# Altium footprint library PCB - LEADED - SOT-23 -TI SOT-23-8 DDF.PcbLib: 1 footprints
Each footprint in its own frame and in the unit in brackets; x right, y up, seen from the top. Pads: shape width x height; smd on the part's side, far side on the other; paste and mask are expansions set on the pad; w line width, h text height; cw(c..) or ccw(c..) is an arc to the next point about the centre after c.
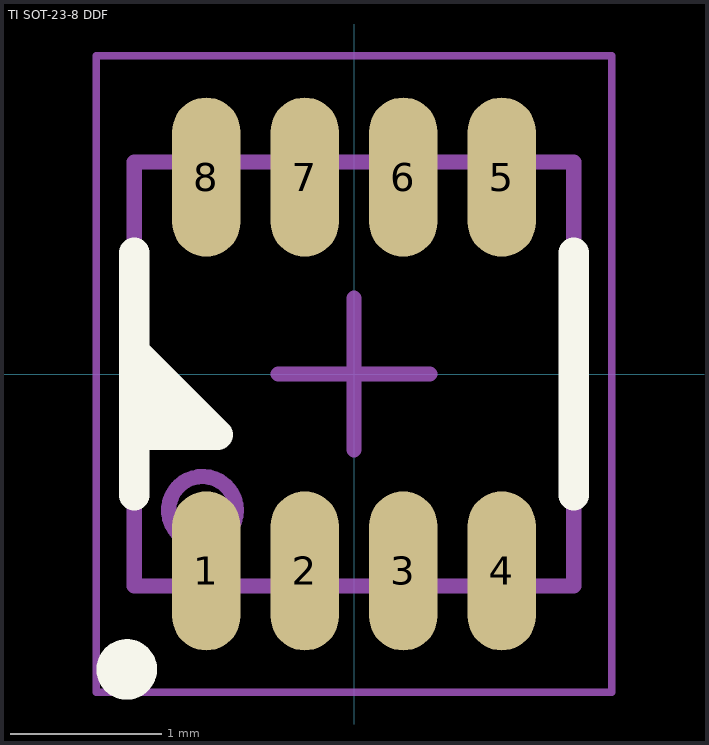
[diagram p0: the footprint, top view; thin cyan lines are the x and y axes]

## TI SOT-23-8 DDF [mm] "TSOT-23-8 Package, 0.65mm Pitch, 2.90x1.60mm Body"
height 1.1
pads (8):
  oval 0.45x1.05 smd: 1(-0.975,-1.3) 2(-0.325,-1.3) 3(0.325,-1.3) 4(0.975,-1.3) 5(0.975,1.3) 6(0.325,1.3) 7(-0.325,1.3) 8(-0.975,1.3)
Top Overlay:
  circle w0.2: c-1.5,-1.95 r0.1
  region: -1.45,0.15 -0.9,-0.4 -1.45,-0.4
  lines w0.2: -1.45,-0.8 -1.45,0 -1.45,0.8 ; -1.45,-0.4 -0.9,-0.4 -1.45,0.15 ; 1.45,-0.8 1.45,0 1.45,0.8
Mechanical 13:
  circle w0.1: c-1,-0.9 r0.224
  lines w0.1: -1.45,-1.4 1.45,-1.4 1.45,1.4 -1.45,1.4 -1.45,-1.4
Mechanical 15 (Mech15):
  lines w0.05: -1.7,-2.1 1.7,-2.1 1.7,2.1 -1.7,2.1 -1.7,-2.1
  lines w0.1: -0.5,0 0,0 ; 0,-0.5 0,0 ; 0,0.5 0,0 ; 0.5,0 0,0
3D body "TI - SOT-23-8 DDF v2.step": height 1.1, standoff 0, extent -1.45,-1.4 1.45,1.4